# EAGLE library part ARDUINO_DIP (library arduino_layout)
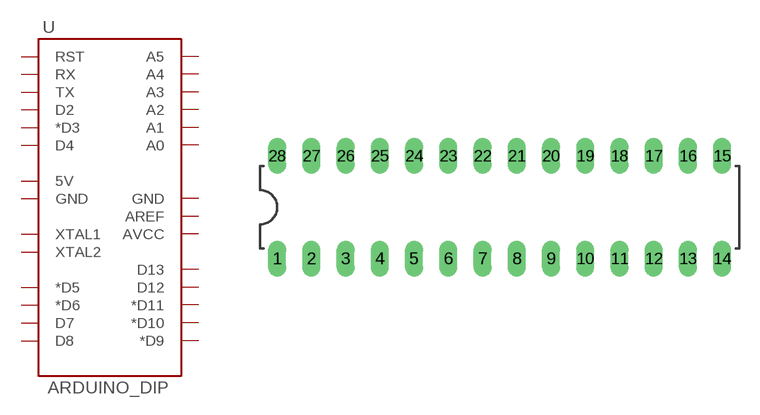
[diagram p6: symbol with the pads of ARDUINO_DIP; footprint ARDUINO_DIP]

Designator prefix -

## ARDUINO_DIP  [ARDUINO_DIP]
1  RST
2  RX
3  TX
4  D2
5  *D3
6  D4
7  5V
8  GND
9  XTAL1
10  XTAL2
11  *D5
12  *D6
13  D7
14  D8
15  *D9
16  *D10
17  *D11
18  D12
19  D13
20  AVCC
21  AREF
22  GND
23  A0
24  A1
25  A2
26  A3
27  A4
28  A5

## Footprint ARDUINO_DIP (pad centres in mm)
drill 0.813 long: 1 -15.24,-3.81; 2 -12.7,-3.81; 3 -10.16,-3.81; 4 -7.62,-3.81; 5 -5.08,-3.81; 6 -2.54,-3.81; 7 0,-3.81; 8 2.54,-3.81; 9 5.08,-3.81; 10 7.62,-3.81; 11 10.16,-3.81; 12 12.7,-3.81; 13 15.24,-3.81; 14 17.78,-3.81; 15 17.78,3.81; 16 15.24,3.81; 17 12.7,3.81; 18 10.16,3.81; 19 7.62,3.81; 20 5.08,3.81; 21 2.54,3.81; 22 0,3.81; 23 -2.54,3.81; 24 -5.08,3.81; 25 -7.62,3.81; 26 -10.16,3.81; 27 -12.7,3.81; 28 -15.24,3.81